# EAGLE library part ADE-1 (library NRAO-MiniCkts)
ADE-1 & ADE-1+ Level 7 Mixer, 0.5 - 500 MHz
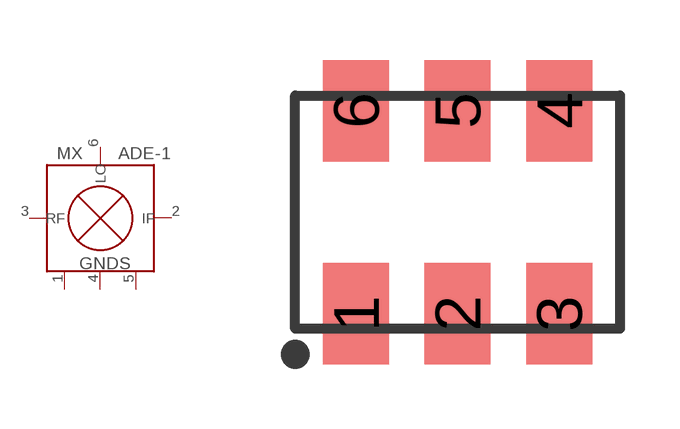
[diagram p2: symbol with the pads of CD636; footprint CD636]

Designator prefix MX

## ADE-1  [CD636]
1  GND  pas
2  IF  pas
3  RF  pas
4  GND  pas
5  GND  pas
6  LO  pas

## Footprint CD636 (pad centres in mm)
Mini-Circuits CD series package (CD541, CD542, CD636, CD637)
smd 1.651 x 2.54: 1 -2.54,-2.54; 2 0,-2.54; 3 2.54,-2.54; 4 2.54,2.54; 5 0,2.54; 6 -2.54,2.54